# EAGLE library part MOLEX_SL_18 (library molex-sl-connectors_jw)
Molex SL-Series PCB Header, 18-Pos, 0.1" (2.54mm) Centers
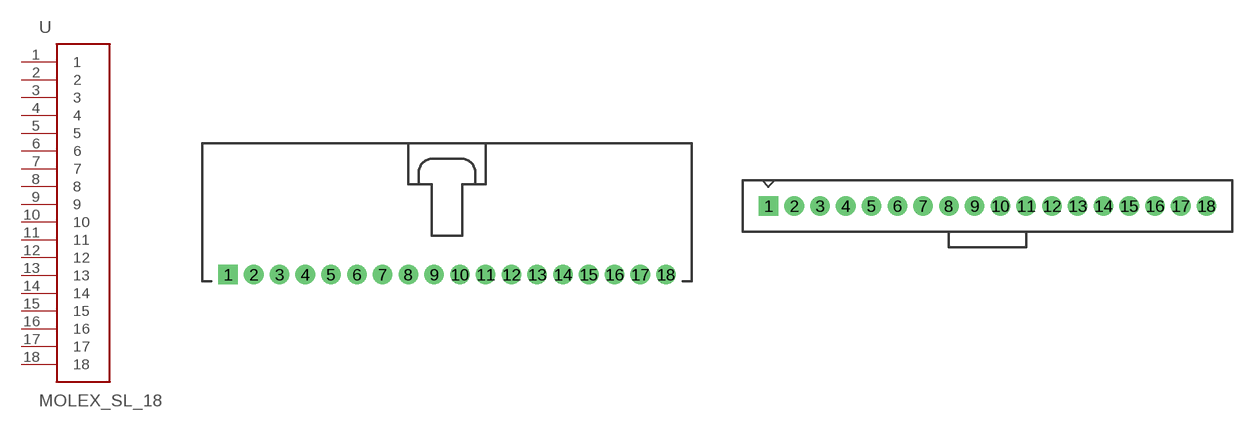
[diagram p12: symbol with the pads of SL_70553_18; footprints SL_70553_18, SL_70543_18]

Designator prefix -

## MOLEX_SL_18-70553  [SL_70553_18]
1  1
2  2
3  3
4  4
5  5
6  6
7  7
8  8
9  9
10  10
11  11
12  12
13  13
14  14
15  15
16  16
17  17
18  18

## MOLEX_SL_18-70543-74095  [SL_70543_18]
Pads as for SL_70553_18

## MOLEX_SL_18-70541-70545  [SL_70541_18]
Pads as for SL_70553_18

## MOLEX_SL_18-70551  [SL_70551_18]
Pads as for SL_70553_18

## MOLEX_SL_18-70555  [SL_70555_18]
Pads as for SL_70553_18

## MOLEX_SL_18-70634  [SL_70634_18]
Pads as for SL_70553_18

## MOLEX_SL_18-87898  [SL_87898_18]
Pads as for SL_70553_18

## Footprint SL_70553_18 (pad centres in mm)
Right-Angle Header w/ Latch (no pegs) 70553-0017 70553-0052 70553-0122 70553-0157
drill 1.1 pad 1.93 square: 1 -21.59,-5.08
drill 1.1 pad 1.93: 2 -19.05,-5.08; 3 -16.51,-5.08; 4 -13.97,-5.08; 5 -11.43,-5.08; 6 -8.89,-5.08; 7 -6.35,-5.08; 8 -3.81,-5.08; 9 -1.27,-5.08; 10 1.27,-5.08; 11 3.81,-5.08; 12 6.35,-5.08; 13 8.89,-5.08; 14 11.43,-5.08; 15 13.97,-5.08; 16 16.51,-5.08; 17 19.05,-5.08; 18 21.59,-5.08

## Footprint SL_70543_18 (pad centres in mm)
Vertical Header w/ Latch & Optional Compliant Pins (no pegs) Normal Pins: 70543-0017 70543-0052 70543-0087 70543-0122 70543-0157 70543-0181 70543-0216 70543-0264 70543-0288 70543-0312 Compliant Pins 74095-0018 74095-0048 74095-0078 74095-1048 74095-1078
drill 1.1 pad 1.93 square: 1 -21.59,1.27
drill 1.1 pad 1.93: 2 -19.05,1.27; 3 -16.51,1.27; 4 -13.97,1.27; 5 -11.43,1.27; 6 -8.89,1.27; 7 -6.35,1.27; 8 -3.81,1.27; 9 -1.27,1.27; 10 1.27,1.27; 11 3.81,1.27; 12 6.35,1.27; 13 8.89,1.27; 14 11.43,1.27; 15 13.97,1.27; 16 16.51,1.27; 17 19.05,1.27; 18 21.59,1.27

## Footprint SL_70541_18 (pad centres in mm)
Vertical Header w/ Latch & Pegs With Split Pegs: 70541-0017 70541-0052 70541-0087 With Tri-Pegs: 70545-0017 70545-0052 70545-0087
drill 1.1 pad 1.93 square: 1 -21.59,1.27
drill 1.1 pad 1.93: 2 -19.05,1.27; 3 -16.51,1.27; 4 -13.97,1.27; 5 -11.43,1.27; 6 -8.89,1.27; 7 -6.35,1.27; 8 -3.81,1.27; 9 -1.27,1.27; 10 1.27,1.27; 11 3.81,1.27; 12 6.35,1.27; 13 8.89,1.27; 14 11.43,1.27; 15 13.97,1.27; 16 16.51,1.27; 17 19.05,1.27; 18 21.59,1.27
hole 3.404 at -25.654,0.508
hole 3.404 at 25.654,0.508

## Footprint SL_70551_18 (pad centres in mm)
Right-Angle Header w/ Latch & Split Pegs 70551-0017 70551-0052 70551-0087
drill 1.1 pad 1.93 square: 1 -21.59,-5.08
drill 1.1 pad 1.93: 2 -19.05,-5.08; 3 -16.51,-5.08; 4 -13.97,-5.08; 5 -11.43,-5.08; 6 -8.89,-5.08; 7 -6.35,-5.08; 8 -3.81,-5.08; 9 -1.27,-5.08; 10 1.27,-5.08; 11 3.81,-5.08; 12 6.35,-5.08; 13 8.89,-5.08; 14 11.43,-5.08; 15 13.97,-5.08; 16 16.51,-5.08; 17 19.05,-5.08; 18 21.59,-5.08
hole 3.404 at -22.86,3.556
hole 3.404 at 22.86,3.556

## Footprint SL_70555_18 (pad centres in mm)
Right-Angle Header w/ Latch & Tri-Pegs 70555-0017 70555-0052 70555-0087 70555-5017
drill 1.1 pad 1.93 square: 1 -21.59,-5.08
drill 1.1 pad 1.93: 2 -19.05,-5.08; 3 -16.51,-5.08; 4 -13.97,-5.08; 5 -11.43,-5.08; 6 -8.89,-5.08; 7 -6.35,-5.08; 8 -3.81,-5.08; 9 -1.27,-5.08; 10 1.27,-5.08; 11 3.81,-5.08; 12 6.35,-5.08; 13 8.89,-5.08; 14 11.43,-5.08; 15 13.97,-5.08; 16 16.51,-5.08; 17 19.05,-5.08; 18 21.59,-5.08
hole 3.404 at -22.987,3.556
hole 3.404 at 22.987,3.556

## Footprint SL_70634_18 (pad centres in mm)
SMD Right-Angle Header w/ Latch & PCB Pegs 70634-0017 70634-0052 70634-0087 70634-0122 70634-0157 70634-0192 70634-0218
smd 1.651 x 5.334: 1 -21.59,-7.62; 2 -19.05,-7.62; 3 -16.51,-7.62; 4 -13.97,-7.62; 5 -11.43,-7.62; 6 -8.89,-7.62; 7 -6.35,-7.62; 8 -3.81,-7.62; 9 -1.27,-7.62; 10 1.27,-7.62; 11 3.81,-7.62; 12 6.35,-7.62; 13 8.89,-7.62; 14 11.43,-7.62; 15 13.97,-7.62; 16 16.51,-7.62; 17 19.05,-7.62; 18 21.59,-7.62
hole 3.404 at -23.012,3.048
hole 3.404 at 22.987,3.099

## Footprint SL_87898_18 (pad centres in mm)
SMD Vertical Header (no latch or pegs) Package also includes Pick-N-Place Cap Tube packaging w/o Pick-N-Place Cap: 87898-1821 87898-1822 87898-1824 87898-1825 87898-1826 Tube packaging w/ Pick-N-Place Cap: 87898-1831 87898-1832 87898-1834 87898-1835 87898-1836 Tape & Reel packaging w/ Pick-N-Place Cap: 87898-1851 87898-1852 87898-1854 87898-1855 87898-1856
smd 1.27 x 2.946: 1 -21.59,1.803; 2 -19.05,-1.803; 3 -16.51,1.803; 4 -13.97,-1.803; 5 -11.43,1.803; 6 -8.89,-1.803; 7 -6.35,1.803; 8 -3.81,-1.803; 9 -1.27,1.803; 10 1.27,-1.803; 11 3.81,1.803; 12 6.35,-1.803; 13 8.89,1.803; 14 11.43,-1.803; 15 13.97,1.803; 16 16.51,-1.803; 17 19.05,1.803; 18 21.59,-1.803